# EAGLE library part TI-ADS1015 (library FaBo-ADC)
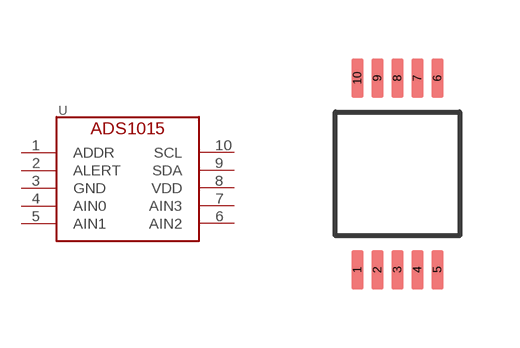
[diagram p2: symbol with the pads of TI-ADS1015; footprint TI-ADS1015]

Designator prefix -

## TI-ADS1015  [TI-ADS1015]
1  ADDR
2  ALERT
3  GND
4  AIN0
5  AIN1
6  AIN2
7  AIN3
8  VDD
9  SDA
10  SCL

## Footprint TI-ADS1015 (pad centres in mm)
smd 0.3 x 1: 1 -1,-2.4; 2 -0.5,-2.4; 3 0,-2.4; 4 0.5,-2.4; 5 1,-2.4; 6 1,2.4; 7 0.5,2.4; 8 0,2.4; 9 -0.5,2.4; 10 -1,2.4